# EAGLE library part STD043F15X1 (library con-pinheader-standard)
female standard header 2mm, 4.3mm height
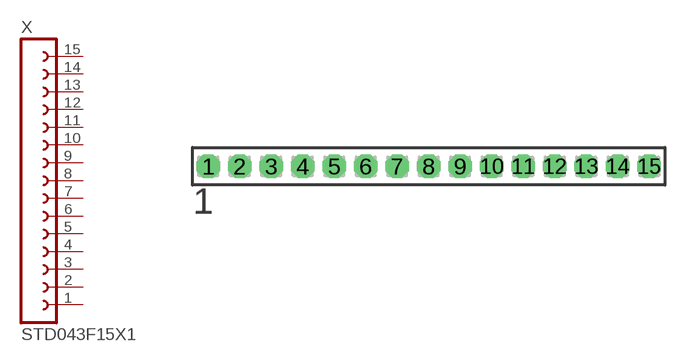
[diagram p9: symbol with the pads of STD043F15X1-2.00; footprint STD043F15X1-2.00]

Designator prefix X

## STD043F15X1-2.00MM (OC_FARNELL: unknown; OC_NEWARK: unknown)  [STD043F15X1-2.00]
1  1  pas
2  2  pas
3  3  pas
4  4  pas
5  5  pas
6  6  pas
7  7  pas
8  8  pas
9  9  pas
10  10  pas
11  11  pas
12  12  pas
13  13  pas
14  14  pas
15  15  pas

## Footprint STD043F15X1-2.00 (pad centres in mm)
female standard header 2mm, 4.3mm height
drill 0.8 pad 1.5 octagon: 1 -14,0; 2 -12,0; 3 -10,0; 4 -8,0; 5 -6,0; 6 -4,0; 7 -2,0; 8 0,0; 9 2,0; 10 4,0; 11 6,0; 12 8,0; 13 10,0; 14 12,0; 15 14,0